# EAGLE library part 750313809 (library wurth_electronics_midcom_inc_v2-1)
Package Style: ER35/21 Mounting: THT Pins: 12 pins Bobbin: 070-5818 Best pinouts for production vary per application. Please contact Wurth Electronics Midcom, Inc. for assistance with your custom design. Website: Wurth Electronics Midcom <http://www.we-online.com/midcom> Contact us Wurth Electronics Midcom, Inc. 121 Airport Dr. Watertown, SD 57201 Phone: (605) 886-4385 Fax: (605) 886-4486 E-Mail: midcom@we-online.com
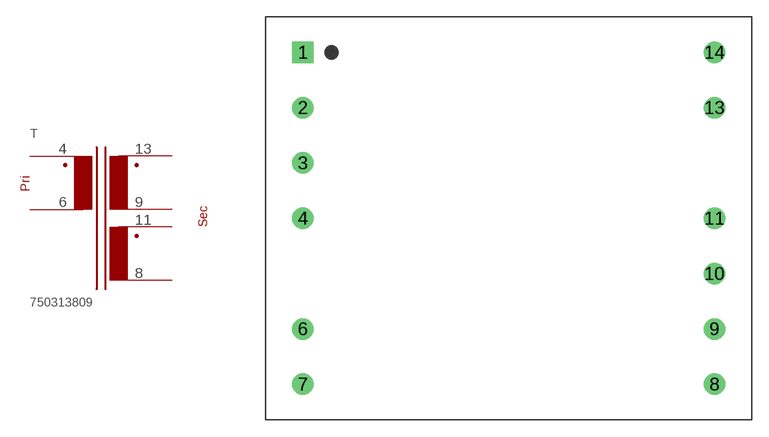
[diagram p110: symbol with the pads of ER35/21_THT_H_12PIN_(5818); footprint ER35/21_THT_H_12PIN_(5818)]

Designator prefix T

## 750313809  [ER35/21_THT_H_12PIN_(5818)]
4  4  pas
6  6  pas
8  8  pas
9  9  pas
11  11  pas
13  13  pas

## Footprint ER35/21_THT_H_12PIN_(5818) (pad centres in mm)
Package Style: ER35/21 Mounting: THT Pins: 14 Bobbin: 070-5818
drill 1.295 square: 1 -18.605,15.011
drill 1.295: 2 -18.605,10.008; 3 -18.605,5.004; 4 -18.605,0; 6 -18.605,-10.008; 7 -18.605,-15.011; 8 18.605,-15.011; 9 18.605,-10.008; 10 18.605,-5.004; 11 18.605,0; 13 18.605,10.008; 14 18.605,15.011